# Altium footprint library SnapEDApcb.PcbLib: 2 footprints
Each footprint in its own frame and in the unit in brackets; x right, y up, seen from the top. Pads: shape width x height; smd on the part's side, far side on the other; paste and mask are expansions set on the pad; w line width, h text height; cw(c..) or ccw(c..) is an arc to the next point about the centre after c.
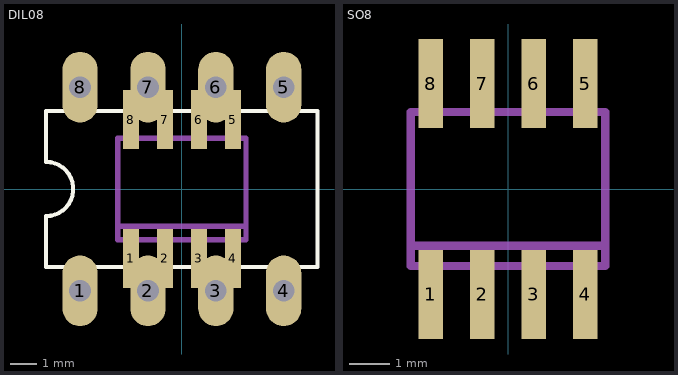
[diagram p0: the footprints below, top view; thin cyan lines are the x and y axes]

## DIL08 [mm]
pads (16):
  oval 1.321x2.642 hole 0.813: 1(-3.81,-3.81) 2(-1.27,-3.81) 3(1.27,-3.81) 4(3.81,-3.81) 5(3.81,3.81) 6(1.27,3.81) 7(-1.27,3.81) 8(-3.81,3.81)
  rect 0.6x2.2 smd: 1(-1.905,-2.6) 2(-0.635,-2.6) 3(0.635,-2.6) 4(1.905,-2.6) 5(1.905,2.6) 6(0.635,2.6) 7(-0.635,2.6) 8(-1.905,2.6)
Top Overlay:
  lines w0.152: -5.08,-2.921 -5.08,-1.016 ccw(c-5.08,0) -5.08,1.016 -5.08,2.921 5.08,2.921 5.08,-2.921 -5.08,-2.921
Mechanical 13:
  region: -1.66,2.004 -2.154,2.004 -2.154,3.1 -1.66,3.1
  region: -0.39,2.003 -0.881,2.003 -0.881,3.1 -0.39,3.1
  region: 0.88,2.003 0.39,2.003 0.39,3.1 0.88,3.1
  region: 2.15,2.002 1.662,2.002 1.662,3.1 2.15,3.1
  region: 2.15,-3.103 1.661,-3.103 1.661,-2 2.15,-2
  region: 0.88,-3.1 0.39,-3.1 0.39,-2 0.88,-2
  region: -0.39,-3.101 -0.88,-3.101 -0.88,-2 -0.39,-2
  region: -1.66,-3.104 -2.152,-3.104 -2.152,-2 -1.66,-2
  lines w0.203: -2.4,-1.4 2.4,-1.4 ; -2.4,-1.4 -2.4,1.9 2.4,1.9 2.4,-1.4 ; -2.4,-1.4 -2.4,-1.9 2.4,-1.9 2.4,-1.4

## SO8 [mm]
pads (8):
  rect 0.6x2.2 smd: 1(-1.905,-2.6) 2(-0.635,-2.6) 3(0.635,-2.6) 4(1.905,-2.6) 5(1.905,2.6) 6(0.635,2.6) 7(-0.635,2.6) 8(-1.905,2.6)
Mechanical 13:
  region: -1.66,-3.104 -2.152,-3.104 -2.152,-2 -1.66,-2
  region: -0.39,-3.101 -0.88,-3.101 -0.88,-2 -0.39,-2
  region: 0.88,-3.1 0.39,-3.1 0.39,-2 0.88,-2
  region: 2.15,-3.103 1.661,-3.103 1.661,-2 2.15,-2
  region: 2.15,2.002 1.662,2.002 1.662,3.1 2.15,3.1
  region: 0.88,2.003 0.39,2.003 0.39,3.1 0.88,3.1
  region: -0.39,2.003 -0.881,2.003 -0.881,3.1 -0.39,3.1
  region: -1.66,2.004 -2.154,2.004 -2.154,3.1 -1.66,3.1
  lines w0.203: -2.4,-1.4 -2.4,-1.9 2.4,-1.9 2.4,-1.4 ; -2.4,-1.4 -2.4,1.9 2.4,1.9 2.4,-1.4 ; -2.4,-1.4 2.4,-1.4